# Altium footprint library PcbLib2.PcbLib: 39 footprints (part 3 of 3)
Each footprint in its own frame and in the unit in brackets; x right, y up, seen from the top. Pads: shape width x height; smd on the part's side, far side on the other; paste and mask are expansions set on the pad; w line width, h text height; cw(c..) or ccw(c..) is an arc to the next point about the centre after c.
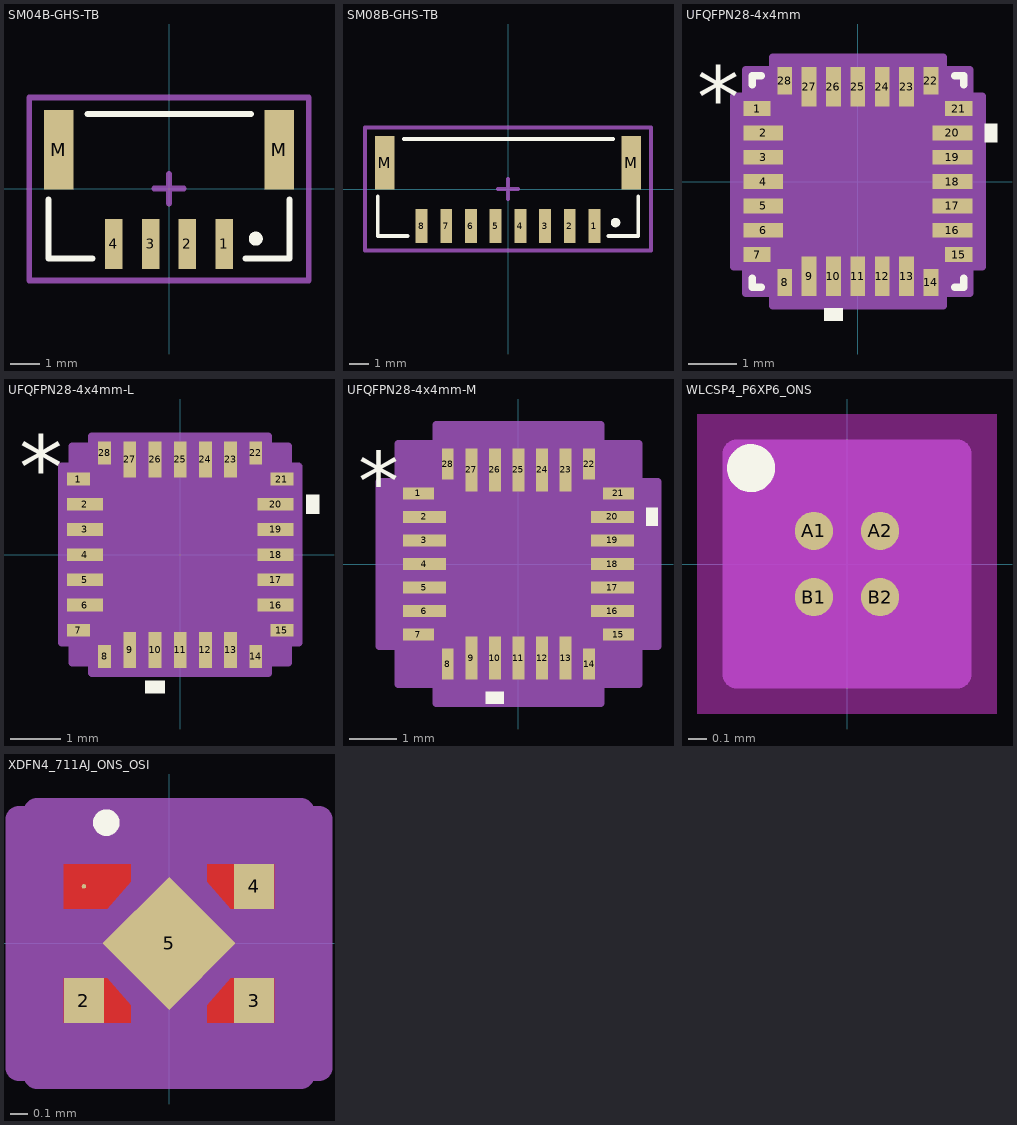
[diagram p2: the footprints below, top view; thin cyan lines are the x and y axes]

## SM04B-GHS-TB [mm] "1.25mm pitch/Disconnectable Crimp style connectors"
height 4.35
pads (6):
  rect 0.6x1.7 smd: 1(1.875,-1.875) 2(0.625,-1.875) 3(-0.625,-1.875) 4(-1.875,-1.875)
  rect 1x2.7 smd: M(-3.75,1.325) M(3.75,1.325)
Top Overlay:
  circle w0.254: c2.95,-1.7 r0.112
  lines w0.2: -4.1,-0.375 -4.1,-2.375 -2.6,-2.375 ; -2.774,2.54 2.794,2.54 ; 2.6,-2.375 4.1,-2.375 4.1,-0.375
Top Courtyard:
  lines w0.2: -0.5,0 0.5,0 ; 0,-0.5 0,0.5 ; -4.75,-3.125 -4.75,3.1 4.75,3.1 4.75,-3.125 -4.75,-3.125
3D body "JST SM04B-GHS-TB.STEP": height 4.35, standoff 0, extent -4.125,-2.31 4.125,2.54

## SM08B-GHS-TB [mm] "1.25mm pitch/Disconnectable Crimp style connectors"
height 4.35
pads (10):
  rect 0.6x1.7 smd: 1(4.375,-1.875) 2(3.125,-1.875) 3(1.875,-1.875) 4(0.625,-1.875) 5(-0.625,-1.875) 6(-1.875,-1.875) 7(-3.125,-1.875) 8(-4.375,-1.875)
  rect 1x2.7 smd: M(-6.25,1.325) M(6.25,1.325)
Top Overlay:
  circle w0.254: c5.45,-1.7 r0.112
  lines w0.2: -6.6,-0.375 -6.6,-2.375 -5.1,-2.375 ; -5.274,2.54 5.334,2.54 ; 5.1,-2.375 6.6,-2.375 6.6,-0.375
Top Courtyard:
  lines w0.2: -0.5,0 0.5,0 ; 0,-0.5 0,0.5 ; -7.25,-3.125 -7.25,3.125 7.25,3.125 7.25,-3.125 -7.25,-3.125
3D body "JST SM08B-GHS-TB.STEP": height 4.35, standoff -0.05, extent -6.625,-2.31 6.625,2.54

## UFQFPN28-4x4mm [mil]
pads (28):
  rect 22x12 smd paste-11 mask-11: 1(-81.5,59.06) 7(-81.5,-59.06) 15(81.5,-59.06) 21(81.5,59.06)
  rect 32x12 smd paste+0 mask+0: 2(-76.5,39.37) 3(-76.5,19.68) 4(-76.5,0) 5(-76.5,-19.68) 6(-76.5,-39.37) 16(76.5,-39.37) 17(76.5,-19.68) 18(76.5,0) 19(76.5,19.68) 20(76.5,39.37)
  rect 12x22 smd paste-11 mask-11: 8(-59.06,-81.5) 14(59.06,-81.5) 22(59.06,81.5) 28(-59.06,81.5)
  rect 12x32 smd paste+0 mask+0: 9(-39.37,-76.5) 10(-19.68,-76.5) 11(0,-76.5) 12(19.68,-76.5) 13(39.37,-76.5) 23(39.37,76.5) 24(19.68,76.5) 25(0,76.5) 26(-19.68,76.5) 27(-39.37,76.5)
Top Overlay:
  region: 102.5,46.87 112.5,46.87 112.5,31.87 102.5,31.87
  region: -12.19,-102.5 -27.18,-102.5 -27.18,-112.5 -12.19,-112.5
  lines w6: -85.5,-78.16 -85.5,-85.5 -78.16,-85.5 ; -85.5,78.16 -85.5,85.5 -78.16,85.5 ; 78.16,-85.5 85.5,-85.5 85.5,-78.16 ; 78.16,85.5 85.5,85.5 85.5,78.16
  text "*" at -130,43.9 h50
Top 3D Body:
  lines w1: -80.5,30.5 -30.5,80.5 ; -80.5,-80.5 -80.5,80.5 80.5,80.5 80.5,-80.5 -80.5,-80.5 ; -80.5,-65.06 -80.5,-53.06 -80.5,-65.06 ; -80.5,-45.37 -80.5,-33.37 -80.5,-45.37 ; -80.5,-25.68 -80.5,-13.69 -80.5,-25.68 ; -80.5,-6 -80.5,6 -80.5,-6 ; -80.5,13.69 -80.5,25.68 -80.5,13.69 ; -80.5,33.37 -80.5,45.37 -80.5,33.37 ; -80.5,53.06 -80.5,65.06 -80.5,53.06 ; -65.06,-80.5 -53.06,-80.5 -65.06,-80.5 ; -65.06,80.5 -53.06,80.5 -65.06,80.5 ; -45.37,-80.5 -33.37,-80.5 -45.37,-80.5 ; -45.37,80.5 -33.37,80.5 -45.37,80.5 ; -25.68,-80.5 -13.69,-80.5 -25.68,-80.5 ; -25.68,80.5 -13.69,80.5 -25.68,80.5 ; -6,-80.5 6,-80.5 -6,-80.5 ; -6,80.5 6,80.5 -6,80.5 ; 13.69,-80.5 25.68,-80.5 13.69,-80.5 ; 13.69,80.5 25.68,80.5 13.69,80.5 ; 33.37,-80.5 45.37,-80.5 33.37,-80.5 ; 33.37,80.5 45.37,80.5 33.37,80.5 ; 53.06,-80.5 65.06,-80.5 53.06,-80.5 ; 53.06,80.5 65.06,80.5 53.06,80.5 ; 80.5,-65.06 80.5,-53.06 80.5,-65.06 ; 80.5,-45.37 80.5,-33.37 80.5,-45.37 ; 80.5,-25.68 80.5,-13.69 80.5,-25.68 ; 80.5,-6 80.5,6 80.5,-6 ; 80.5,13.69 80.5,25.68 80.5,13.69 ; 80.5,33.37 80.5,45.37 80.5,33.37 ; 80.5,53.06 80.5,65.06 80.5,53.06
  text "*" at -73,43.9 h50
Top Courtyard:
  region: -68.9,-90.5 -90.5,-90.5 -90.5,-68.9 -100.5,-68.9 -100.5,68.9 -90.5,68.9 -90.5,90.5 -68.9,90.5 -68.9,100.5 68.9,100.5 68.9,90.5 90.5,90.5 90.5,68.9 100.5,68.9 100.5,-68.9 90.5,-68.9 90.5,-90.5 68.9,-90.5 68.9,-100.5 -68.9,-100.5
  lines w6: -100.5,-68.9 -100.5,68.9 -90.5,68.9 -90.5,90.5 -68.9,90.5 -68.9,100.5 68.9,100.5 68.9,90.5 90.5,90.5 90.5,68.9 100.5,68.9 100.5,-68.9 90.5,-68.9 90.5,-90.5 68.9,-90.5 68.9,-100.5 -68.9,-100.5 -68.9,-90.5 -90.5,-90.5 -90.5,-68.9 -100.5,-68.9
3D body "UFQFPN28-4x4mm.step": height 24.09, standoff 0, extent -80.51,-80.51 80.51,80.51

## UFQFPN28-4x4mm-L [mil]
pads (28):
  rect 18x10 smd paste+0 mask+0: 1(-79.5,59.06) 7(-79.5,-59.06) 15(79.5,-59.06) 21(79.5,59.06)
  rect 28x10 smd paste+0 mask+0: 2(-74.5,39.37) 3(-74.5,19.68) 4(-74.5,0) 5(-74.5,-19.68) 6(-74.5,-39.37) 16(74.5,-39.37) 17(74.5,-19.68) 18(74.5,0) 19(74.5,19.68) 20(74.5,39.37)
  rect 10x18 smd paste+0 mask+0: 8(-59.06,-79.5) 14(59.06,-79.5) 22(59.06,79.5) 28(-59.06,79.5)
  rect 10x28 smd paste+0 mask+0: 9(-39.37,-74.5) 10(-19.68,-74.5) 11(0,-74.5) 12(19.68,-74.5) 13(39.37,-74.5) 23(39.37,74.5) 24(19.68,74.5) 25(0,74.5) 26(-19.68,74.5) 27(-39.37,74.5)
Top Overlay:
  region: -12.19,-98.5 -27.18,-98.5 -27.18,-108.5 -12.19,-108.5
  region: 98.5,46.87 108.5,46.87 108.5,31.87 98.5,31.87
  text "*" at -126,43.9 h50
Top 3D Body:
  lines w1: -80.5,30.5 -30.5,80.5 ; -80.5,-80.5 80.5,-80.5 80.5,80.5 -80.5,80.5 -80.5,-80.5 ; -80.5,-65.06 -80.5,-53.06 -80.5,-65.06 ; -80.5,-45.37 -80.5,-33.37 -80.5,-45.37 ; -80.5,-25.68 -80.5,-13.69 -80.5,-25.68 ; -80.5,-6 -80.5,6 -80.5,-6 ; -80.5,13.69 -80.5,25.68 -80.5,13.69 ; -80.5,33.37 -80.5,45.37 -80.5,33.37 ; -80.5,53.06 -80.5,65.06 -80.5,53.06 ; -65.06,-80.5 -53.06,-80.5 -65.06,-80.5 ; -65.06,80.5 -53.06,80.5 -65.06,80.5 ; -45.37,-80.5 -33.37,-80.5 -45.37,-80.5 ; -45.37,80.5 -33.37,80.5 -45.37,80.5 ; -25.68,-80.5 -13.69,-80.5 -25.68,-80.5 ; -25.68,80.5 -13.69,80.5 -25.68,80.5 ; -6,-80.5 6,-80.5 -6,-80.5 ; -6,80.5 6,80.5 -6,80.5 ; 13.69,-80.5 25.68,-80.5 13.69,-80.5 ; 13.69,80.5 25.68,80.5 13.69,80.5 ; 33.37,-80.5 45.37,-80.5 33.37,-80.5 ; 33.37,80.5 45.37,80.5 33.37,80.5 ; 53.06,-80.5 65.06,-80.5 53.06,-80.5 ; 53.06,80.5 65.06,80.5 53.06,80.5 ; 80.5,-65.06 80.5,-53.06 80.5,-65.06 ; 80.5,-45.37 80.5,-33.37 80.5,-45.37 ; 80.5,-25.68 80.5,-13.69 80.5,-25.68 ; 80.5,-6 80.5,6 80.5,-6 ; 80.5,13.69 80.5,25.68 80.5,13.69 ; 80.5,33.37 80.5,45.37 80.5,33.37 ; 80.5,53.06 80.5,65.06 80.5,53.06
  text "*" at -73,43.9 h50
Top Courtyard:
  region: -68.9,-84.5 -84.5,-84.5 -84.5,-68.9 -92.5,-68.9 -92.5,68.9 -84.5,68.9 -84.5,84.5 -68.9,84.5 -68.9,92.5 68.9,92.5 68.9,84.5 84.5,84.5 84.5,68.9 92.5,68.9 92.5,-68.9 84.5,-68.9 84.5,-84.5 68.9,-84.5 68.9,-92.5 -68.9,-92.5
  lines w6: -92.5,-68.9 -84.5,-68.9 -84.5,-84.5 -68.9,-84.5 -68.9,-92.5 68.9,-92.5 68.9,-84.5 84.5,-84.5 84.5,-68.9 92.5,-68.9 92.5,68.9 84.5,68.9 84.5,84.5 68.9,84.5 68.9,92.5 -68.9,92.5 -68.9,84.5 -84.5,84.5 -84.5,68.9 -92.5,68.9 -92.5,-68.9
3D body "UFQFPN28-4x4mm.step": height 24.09, standoff 0, extent -80.51,-80.51 80.51,80.51

## UFQFPN28-4x4mm-M [mil]
pads (28):
  rect 26x10 smd paste+0 mask+0: 1(-83.5,59.06) 7(-83.5,-59.06) 15(83.5,-59.06) 21(83.5,59.06)
  rect 36x10 smd paste+0 mask+0: 2(-78.5,39.37) 3(-78.5,19.68) 4(-78.5,0) 5(-78.5,-19.68) 6(-78.5,-39.37) 16(78.5,-39.37) 17(78.5,-19.68) 18(78.5,0) 19(78.5,19.68) 20(78.5,39.37)
  rect 10x26 smd paste+0 mask+0: 8(-59.06,-83.5) 14(59.06,-83.5) 22(59.06,83.5) 28(-59.06,83.5)
  rect 10x36 smd paste+0 mask+0: 9(-39.37,-78.5) 10(-19.68,-78.5) 11(0,-78.5) 12(19.68,-78.5) 13(39.37,-78.5) 23(39.37,78.5) 24(19.68,78.5) 25(0,78.5) 26(-19.68,78.5) 27(-39.37,78.5)
Top Overlay:
  region: -12.19,-106.5 -27.18,-106.5 -27.18,-116.5 -12.19,-116.5
  region: 106.5,46.87 116.5,46.87 116.5,31.87 106.5,31.87
  text "*" at -134,43.9 h50
Top 3D Body:
  lines w1: -80.5,30.5 -30.5,80.5 ; -80.5,-80.5 80.5,-80.5 80.5,80.5 -80.5,80.5 -80.5,-80.5 ; -80.5,-65.06 -80.5,-53.06 -80.5,-65.06 ; -80.5,-45.37 -80.5,-33.37 -80.5,-45.37 ; -80.5,-25.68 -80.5,-13.69 -80.5,-25.68 ; -80.5,-6 -80.5,6 -80.5,-6 ; -80.5,13.69 -80.5,25.68 -80.5,13.69 ; -80.5,33.37 -80.5,45.37 -80.5,33.37 ; -80.5,53.06 -80.5,65.06 -80.5,53.06 ; -65.06,-80.5 -53.06,-80.5 -65.06,-80.5 ; -65.06,80.5 -53.06,80.5 -65.06,80.5 ; -45.37,-80.5 -33.37,-80.5 -45.37,-80.5 ; -45.37,80.5 -33.37,80.5 -45.37,80.5 ; -25.68,-80.5 -13.69,-80.5 -25.68,-80.5 ; -25.68,80.5 -13.69,80.5 -25.68,80.5 ; -6,-80.5 6,-80.5 -6,-80.5 ; -6,80.5 6,80.5 -6,80.5 ; 13.69,-80.5 25.68,-80.5 13.69,-80.5 ; 13.69,80.5 25.68,80.5 13.69,80.5 ; 33.37,-80.5 45.37,-80.5 33.37,-80.5 ; 33.37,80.5 45.37,80.5 33.37,80.5 ; 53.06,-80.5 65.06,-80.5 53.06,-80.5 ; 53.06,80.5 65.06,80.5 53.06,80.5 ; 80.5,-65.06 80.5,-53.06 80.5,-65.06 ; 80.5,-45.37 80.5,-33.37 80.5,-45.37 ; 80.5,-25.68 80.5,-13.69 80.5,-25.68 ; 80.5,-6 80.5,6 80.5,-6 ; 80.5,13.69 80.5,25.68 80.5,13.69 ; 80.5,33.37 80.5,45.37 80.5,33.37 ; 80.5,53.06 80.5,65.06 80.5,53.06
  text "*" at -73,43.9 h50
Top Courtyard:
  region: -68.9,-100.5 -100.5,-100.5 -100.5,-68.9 -116.5,-68.9 -116.5,68.9 -100.5,68.9 -100.5,100.5 -68.9,100.5 -68.9,116.5 68.9,116.5 68.9,100.5 100.5,100.5 100.5,68.9 116.5,68.9 116.5,-68.9 100.5,-68.9 100.5,-100.5 68.9,-100.5 68.9,-116.5 -68.9,-116.5
  lines w6: -116.5,-68.9 -100.5,-68.9 -100.5,-100.5 -68.9,-100.5 -68.9,-116.5 68.9,-116.5 68.9,-100.5 100.5,-100.5 100.5,-68.9 116.5,-68.9 116.5,68.9 100.5,68.9 100.5,100.5 68.9,100.5 68.9,116.5 -68.9,116.5 -68.9,100.5 -100.5,100.5 -100.5,68.9 -116.5,68.9 -116.5,-68.9
3D body "UFQFPN28-4x4mm.step": height 24.09, standoff 0, extent -80.51,-80.51 80.51,80.51

## WLCSP4_P6XP6_ONS [mm]
pads (4):
  round 0.203 smd paste+0 mask+0: A1(-0.175,0.175) A2(0.175,0.175) B1(-0.175,-0.175) B2(0.175,-0.175)
Top Overlay:
  circle w0.127: c-0.508,0.508 r0.064
Keep-Out Layer:
  region: -0.794,-0.794 -0.794,0.794 0.794,0.794 0.794,-0.794
Top 3D Body:
  lines w0.025: -0.33,0.155 -0.155,0.33 ; -0.33,-0.33 0.33,-0.33 0.33,0.33 -0.33,0.33 -0.33,-0.33
Top Courtyard:
  region: 0.584,-0.584 -0.584,-0.584 -0.584,0.584 0.584,0.584
  lines w0.152: -0.584,-0.584 -0.584,0.584 0.584,0.584 0.584,-0.584 -0.584,-0.584
3D body "NCP161AFCS180T2G.step": height 0.46, standoff 0, extent -0.32,-0.32 0.32,0.32

## XDFN4_711AJ_ONS_OSI [mil]
pads (5):
  round 1 smd paste-5 mask-5: 1(-19,12.75)
  rect 9x10 smd paste-5 mask-5: 2(-19,-12.75) 3(19,-12.75) 4(19,12.75)
  rect 21x21 smd rot 45 paste-10.5 mask+0: 5(0,0)
Top Layer:
  region: -23.5,-7.75 -23.5,-17.75 -8.5,-17.75 -8.5,-13.75 -13.75,-7.75
  region: -23.5,7.75 -23.5,17.75 -8.5,17.75 -8.5,13.75 -13.75,7.75
  region: 0,10.5
  region: 0,-10.5
  region: 23.5,7.75 23.5,17.75 8.5,17.75 8.5,13.75 13.75,7.75
  region: 23.5,-7.75 23.5,-17.75 8.5,-17.75 8.5,-13.75 13.75,-7.75
  region: -23.5,17.75 -23.5,7.75 -14.5,7.75 -14.5,17.75
Top Overlay:
  circle w3.94: c-14,27 r1
Top Paste:
  region: -23.5,-7.75 -23.5,-17.75 -8.5,-17.75 -8.5,-13.75 -13.75,-7.75
  region: -23.5,7.75 -23.5,17.75 -8.5,17.75 -8.5,13.75 -13.75,7.75
  region: 23.5,7.75 23.5,17.75 8.5,17.75 8.5,13.75 13.75,7.75
  region: 23.5,-7.75 23.5,-17.75 8.5,-17.75 8.5,-13.75 13.75,-7.75
Top Solder:
  region: 0,10.5
  region: 0,-10.5
  region: -23.5,7.75 -23.5,17.75 -8.5,17.75 -8.5,13.75 -13.75,7.75
  region: 23.5,7.75 23.5,17.75 8.5,17.75 8.5,13.75 13.75,7.75
  region: -23.5,-7.75 -23.5,-17.75 -8.5,-17.75 -8.5,-13.75 -13.75,-7.75
  region: 23.5,-7.75 23.5,-17.75 8.5,-17.75 8.5,-13.75 13.75,-7.75
Top 3D Body:
  lines w0: -12,19.5 ccw(c0,19.5) 12,19.5
  lines w1: -19.5,-19.5 19.5,-19.5 19.5,19.5 -19.5,19.5 -19.5,-19.5
Top Courtyard:
  region: -29.5,-27.75 -33.5,-27.75 -33.5,27.75 -29.5,27.75 -29.5,29.5 29.5,29.5 29.5,27.75 33.5,27.75 33.5,-27.75 29.5,-27.75 29.5,-29.5 -29.5,-29.5
  lines w6: -33.5,-27.75 -33.5,27.75 -29.5,27.75 -29.5,29.5 29.5,29.5 29.5,27.75 33.5,27.75 33.5,-27.75 29.5,-27.75 29.5,-29.5 -29.5,-29.5 -29.5,-27.75 -33.5,-27.75
3D body "NCP161AMX330TBG.step": height 16.93, standoff 0, extent -19.68,-19.68 19.68,19.68